# Altium footprint library Connectors.PcbLib: 81 footprints (part 5 of 6)
Each footprint in its own frame and in the unit in brackets; x right, y up, seen from the top. Pads: shape width x height; smd on the part's side, far side on the other; paste and mask are expansions set on the pad; w line width, h text height; cw(c..) or ccw(c..) is an arc to the next point about the centre after c.
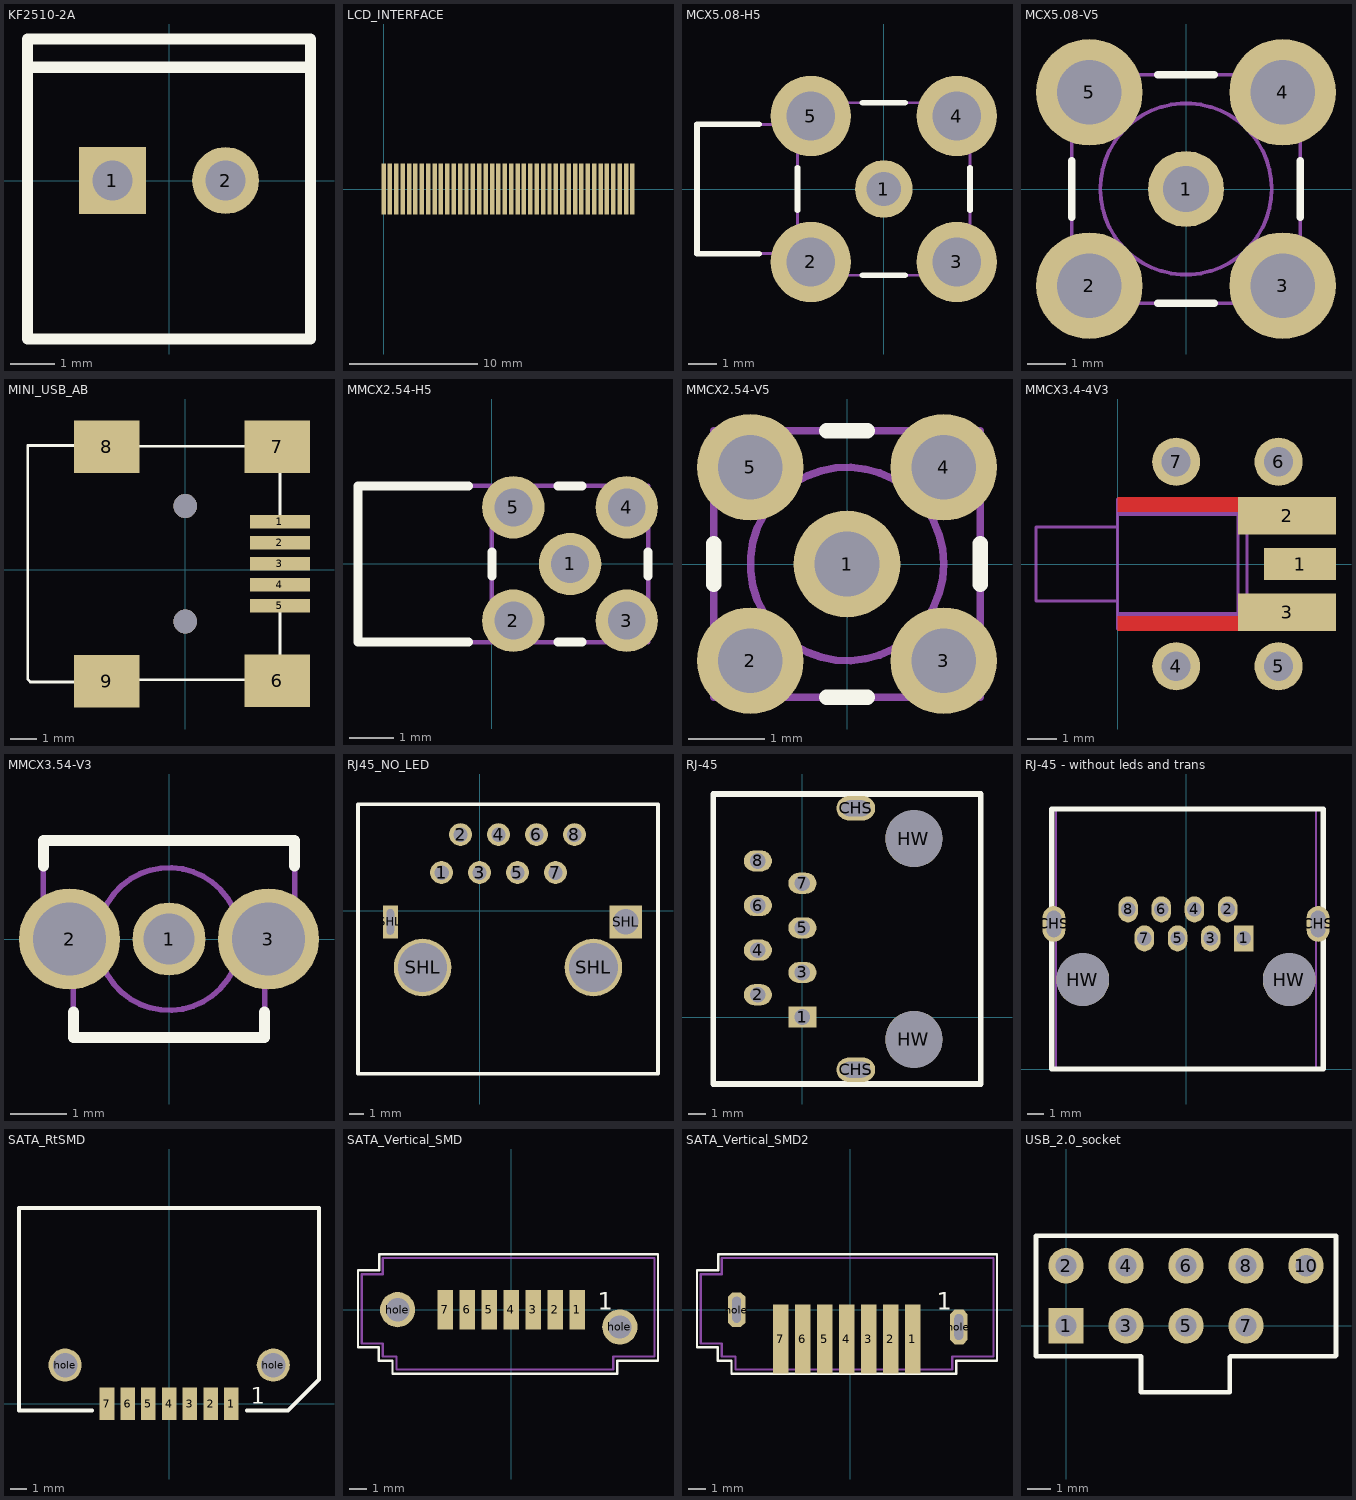
[diagram p4: the footprints below, top view; thin cyan lines are the x and y axes]

## KF2510-2A [mm] "250V/3A connector"
height 16
pads (2):
  rect 1.5x1.5 hole 0.9: 1(-1.27,0)
  round 1.5 hole 0.9: 2(1.27,0)
Top Overlay:
  lines w0.254: -3.175,2.54 -3.175,3.175 3.175,3.175 3.175,2.54 ; -3.175,2.54 -3.175,-3.556 3.175,-3.556 3.175,2.54 ; -3.175,2.54 3.175,2.54
3D body: height 16, standoff 0, extent -2.87,-3.3 2.87,2.5

## LCD_INTERFACE [mm]
pads (40):
  rect 0.35x4 smd: 1(0,0) 2(0.5,0) 3(1,0) 4(1.5,0) 5(2,0) 6(2.5,0) 7(3,0) 8(3.5,0) 9(4,0) 10(4.5,0) 11(5,0) 12(5.5,0) 13(6,0) 14(6.5,0) 15(7,0) 16(7.5,0) 17(8,0) 18(8.5,0) 19(9,0) 20(9.5,0) 21(10,0) 22(10.5,0) 23(11,0) 24(11.5,0) 25(12,0) 26(12.5,0) 27(13,0) 28(13.5,0) 29(14,0) 30(14.5,0) 31(15,0) 32(15.5,0) 33(16,0) 34(16.5,0) 35(17,0) 36(17.5,0) 37(18,0) 38(18.5,0) 39(19,0) 40(19.5,0)

## MCX5.08-H5 [mm] "Connector; RF Coaxial, MCX, Thru-Hole; 5 Position; Right Angle"
height 5.99
pads (5):
  round 2 hole 1.2: 1(0,0)
  round 2.8 hole 1.7: 2(-2.54,-2.54) 3(2.54,-2.54) 4(2.54,2.54) 5(-2.54,2.54)
Top Overlay:
  lines w0.2: -4.34,-2.25 -6.5,-2.25 -6.5,2.25 -4.34,2.25 ; -3,-0.74 -3,0.74 ; -0.74,-3 0.74,-3 ; -0.74,3 0.74,3 ; 3,-0.74 3,0.74
Mechanical 13:
  lines w0.1: -3,-2.25 -6.5,-2.25 -6.5,2.25 -3,2.25 ; -3,-3 3,-3 3,3 -3,3 -3,-3
3D body: height 5.25, standoff 0.76, extent -6.499,-2.249 -2.999,2.242
3D body: height 5.99, standoff 0, extent -2.999,-2.999 2.999,2.999

## MCX5.08-V5 [mm] "Connector; RF Coaxial, MCX, Thru-Hole; 5 Position; Vertical"
height 5.75
pads (5):
  round 2 hole 1.2: 1(0,0)
  round 2.8 hole 1.7: 2(-2.54,-2.54) 3(2.54,-2.54) 4(2.54,2.54) 5(-2.54,2.54)
Top Overlay:
  lines w0.2: -3,-0.74 -3,0.74 ; -0.74,-3 0.74,-3 ; -0.74,3 0.74,3 ; 3,-0.74 3,0.74
Mechanical 13:
  circle w0.1: c0,0 r2.25
  lines w0.1: -3,-3 3,-3 3,3 -3,3 -3,-3
3D body: height 5.75, standoff 1.6, extent -2.26,-2.26 2.26,2.26
3D body: height 1.6, standoff 0, extent -3,-3 3,3

## MINI_USB_AB [mm]
pads (9):
  rect 2.3x0.5 smd: 1(3.608,1.829) 2(3.608,1.029) 3(3.608,0.229) 4(3.608,-0.571) 5(3.608,-1.371)
  rect 2.5x2 smd: 6(3.508,-4.221) 7(3.508,4.679) 8(-2.992,4.679) 9(-2.992,-4.242)
via 0.008,2.429 diameter 0.9 hole 0.9
via 0.008,-1.971 diameter 0.9 hole 0.9
Top Overlay:
  lines w0.1: -3.492,4.729 -5.992,4.729 -5.992,-4.171 -5.892,-4.271 -3.392,-4.271 ; -2.413,4.699 2.667,4.699 ; -2.032,-4.191 2.667,-4.191 ; 3.608,-4.271 3.608,-1.571 ; 3.608,2.029 3.608,4.729

## MMCX2.54-H5 [mm] "Connector; RF Coaxial, MMCX, Thru-Hole; 5 Position; Right Angle"
height 3.8
pads (5):
  round 1.4 hole 0.85: 1(1.75,0) 2(0.48,-1.27) 3(3.02,-1.27) 4(3.02,1.27) 5(0.48,1.27)
Top Overlay:
  lines w0.2: -0.52,-1.75 -3,-1.75 -3,1.75 -0.52,1.75 ; 0,-0.27 0,0.27 ; 1.48,-1.75 2.02,-1.75 ; 1.48,1.75 2.02,1.75 ; 3.5,-0.27 3.5,0.27
Mechanical 13:
  lines w0.1: 0,-1.75 0,1.75 ; -3,-1.75 3.5,-1.75 3.5,1.75 -3,1.75 -3,-1.75
3D body: height 3.8, standoff 0, extent 0,-1.749 3.499,1.749
3D body: height 3.81, standoff 0.32, extent -3,-1.747 0,1.747

## MMCX2.54-V5 [mm] "Connector; RF Coaxial, MMCX, Thru-Hole; 5 Position; Vertical"
height 4.45
pads (5):
  round 1.4 hole 0.85: 1(0,0) 2(-1.27,-1.27) 3(1.27,-1.27) 4(1.27,1.27) 5(-1.27,1.27)
Top Overlay:
  lines w0.2: -1.75,-0.27 -1.75,0.27 ; -0.27,-1.75 0.27,-1.75 ; -0.27,1.75 0.27,1.75 ; 1.75,-0.27 1.75,0.27
Mechanical 13:
  circle w0.1: c0,0 r1.27
  lines w0.1: -1.75,-1.75 1.75,-1.75 1.75,1.75 -1.75,1.75 -1.75,-1.75
3D body: height 4.45, standoff 1.65, extent -1.28,-1.28 1.28,1.28
3D body: height 1.65, standoff 0, extent -1.75,-1.75 1.75,1.75

## MMCX3.4-4V3 [mm] "Connector; RF Coaxial, MMCX, Thru-Hole; 3 Position; Edgecard"
height 7.24
pads (7):
  rect 2.465x1.09 smd: 1(6.258,0)
  rect 3.355x1.295 smd: 2(5.813,1.653) 3(5.813,-1.653)
  round 1.65 hole 1: 4(2.01,-3.505) 5(5.52,-3.505) 6(5.52,3.505) 7(2.01,3.505)
Top Layer:
  rectangle: 0,1.78 7.49,2.3
  rectangle: 0,-2.3 7.49,-1.78
Mechanical 1:
  lines w0.1: 0,-1.78 4.135,-1.78 4.135,1.78 0,1.78 0,-1.78
  text "PCB Edge" at 0.115,-0.794 h0.1
  text "Assign" at 0.5,0.79 h0.5
  text "Keepout" at 0.5,0.136 h0.5
  text "Area to" at 0.5,-0.515 h0.5
  text "Cut-out" at 0.5,-1.209 h0.5
Mechanical 13:
  lines w0.1: 0,-1.7 4.445,-1.7 ; 0,-1.27 -2.794,-1.27 -2.794,1.27 0,1.27 ; 0,1.7 4.445,1.7 ; 0,-2.235 0,2.235 4.445,2.235 4.445,-2.235 0,-2.235
3D body: height 1, standoff -1, extent 0.001,-1.699 4.444,1.699
3D body: height 2.11, standoff 0, extent 0.001,-2.234 4.444,2.234
3D body: height 1.63, standoff -0.9, extent -2.793,-1.269 0.001,1.265

## MMCX3.54-V3 [mm] "Connector; RF Coaxial, MMCX, Thru-Hole; 3 Position; Vertical"
height 7.24
pads (3):
  round 1.3 hole 0.9: 1(0,0)
  round 1.8 hole 1.3: 2(-1.77,0) 3(1.77,0)
Top Overlay:
  lines w0.2: -2.235,1.3 -2.235,1.753 2.235,1.753 2.235,1.3 ; -1.702,-1.3 -1.702,-1.753 1.702,-1.753 1.702,-1.3
Mechanical 13:
  circle w0.1: c0,0 r1.27
  lines w0.1: -2.235,0 -2.235,1.753 2.235,1.753 2.235,0 1.702,0 1.702,-1.753 -1.702,-1.753 -1.702,0 -2.235,0
3D body: height 4.45, standoff 0, extent -2.234,-1.752 2.234,1.752
3D body: height 7.24, standoff 4.45, extent -1.28,-1.28 1.28,1.28

## RJ45_NO_LED [mil]
pads (12):
  round 60 hole 38: 1(-100,100) 2(-50,200) 3(0,100) 4(50,200) 5(100,100) 6(150,200) 7(200,100) 8(250,200)
  rect 39.37x86.61 hole 19.68 slot 66.93 at 90 deg: SHL(-235,-30)
  round 151.57 hole 130: SHL(-150,-150) SHL(300,-150)
  rect 86.61x86.61 hole 67 square: SHL(385,-30)
Top Overlay:
  lines w10: -320,-430 -296.25,-430 -208.75,-430 470,-430 470,-350 470,-23.75 470,58.75 470,131.56 470,217.19 470,280 -320,280 -320,-430

## RJ-45 [mm]
pads (12):
  rect 1.6x1.2 hole 0.89: 1(0,0)
  oval 1.6x1.2 hole 0.89: 2(-2.54,1.27) 3(0,2.54) 4(-2.54,3.81) 5(0,5.08) 6(-2.54,6.35) 7(0,7.62) 8(-2.54,8.89)
  oval 2.2x1.4 hole 0.89 slot 1.63 at 0 deg: CHS(3.048,-3) CHS(3.048,11.89)
  round 3.25 hole 3.25: HW(6.35,-1.27) HW(6.35,10.16)
Top Overlay:
  lines w0.33: -5.08,-3.81 10.16,-3.81 10.16,12.7 -5.08,12.7 -5.08,-3.81

## RJ-45 - without leds and trans [mm]
pads (12):
  rect 1.2x1.6 hole 0.89: 1(3.56,8.04)
  oval 1.2x1.6 hole 0.89: 2(2.56,9.82) 3(1.52,8.04) 4(0.52,9.82) 5(-0.52,8.04) 6(-1.52,9.82) 7(-2.56,8.04) 8(-3.56,9.82)
  oval 1.4x2.2 hole 0.89 slot 1.63 at 90 deg: CHS(-8.13,8.93) CHS(8.13,8.93)
  round 3.25 hole 3.25: HW(-6.35,5.5) HW(6.35,5.5)
Top Overlay:
  lines w0.33: -8.25,0 -8.25,16 8.45,16 8.45,0 -8.25,0
Mechanical 13:
  lines w0.1: -8,0 -8,16 8,16 8,0 -8,0
3D body: height 14, standoff 0, extent -8,0 8,16

## SATA_RtSMD [mil] "SATA 7 pin Right Angle Surface Mount Connector"
height 157.48
pads (9):
  rect 35x78 smd: 1(150,0) 2(100,0) 3(50,0) 4(0,0) 5(-50,0) 6(-100,0) 7(-150,0)
  round 80 hole 59: hole(-251,93) hole(251,93)
Top Overlay:
  lines w10: -186.02,-16.73 -362.2,-16.73 -362.2,471.46 361.22,471.46 361.22,58.07 286.42,-16.73 187.99,-16.73
  text "1" at 196.85,0 h40
3D body: height 157.48, standoff 0, extent -343.5,0 343.5,452.76

## SATA_Vertical_SMD [mm] "SATA 7 pin vertical Surface Mount Connector"
height 4
pads (9):
  rect 0.9x2.3 smd: 1(3.81,0) 2(2.54,0) 3(1.27,0) 4(0,0) 5(-1.27,0) 6(-2.54,0) 7(-3.81,0)
  round 2.032 hole 1.35: hole(-6.56,0) hole(6.27,-1)
Top Overlay:
  lines w0.127: -8.85,-2.175 -7.65,-2.175 -7.65,-2.95 -6.85,-2.95 -6.85,-3.7 6.125,-3.7 6.125,-2.95 8.475,-2.95 8.475,-2.225 8.475,3.2 -6.9,3.2 -7.625,3.2 -7.625,2.275 -8.85,2.275 -8.85,-2.175
  text "1" at 5,0 h1.02
Mechanical 13:
  lines w0.127: -8.63,-1.96 -8.63,2.04 -7.42,2.04 -7.42,2.99 8.27,2.99 8.27,-2.71 5.89,-2.71 5.89,-3.46 -6.63,-3.46 -6.63,-2.71 -7.42,-2.71 -7.42,-1.96 -8.63,-1.96
3D body: height 8.4, standoff 0, extent -8.63,-3.46 8.27,2.99

## SATA_Vertical_SMD2 [mm] "SATA 7 pin vertical Surface Mount Connector provided by HXP"
height 4
pads (9):
  rect 0.9x4 smd: 1(3.61,-1.7) 2(2.34,-1.7) 3(1.07,-1.7) 4(-0.2,-1.7) 5(-1.47,-1.7) 6(-2.74,-1.7) 7(-4.01,-1.7)
  oct 1x2 hole 0.5 slot 1.5 at 90 deg: hole(-6.56,0) hole(6.27,-1)
Top Overlay:
  lines w0.127: -8.85,-2.175 -8.85,2.275 -7.625,2.275 -7.625,3.2 -6.9,3.2 8.475,3.2 8.475,-2.225 8.475,-2.95 6.125,-2.95 6.125,-3.7 -6.85,-3.7 -6.85,-2.95 -7.65,-2.95 -7.65,-2.175 -8.85,-2.175
  text "1" at 5,0 h1.02
Mechanical 13:
  lines w0.127: -8.63,-1.96 -7.42,-1.96 -7.42,-2.71 -6.63,-2.71 -6.63,-3.46 5.89,-3.46 5.89,-2.71 8.27,-2.71 8.27,2.99 -7.42,2.99 -7.42,2.04 -8.63,2.04 -8.63,-1.96
3D body: height 8.4, standoff 0, extent -8.63,-3.46 8.27,2.99

## USB_2.0_socket [mm] "socket for 2 channel usb 2.0 from pannel"
pads (9):
  rect 1.5x1.5 hole 0.9: 1(0,0)
  round 1.5 hole 0.9: 2(0,2.54) 3(2.54,0) 4(2.54,2.54) 5(5.08,0) 6(5.08,2.54) 7(7.62,0) 8(7.62,2.54) 10(10.16,2.54)
Top Overlay:
  lines w0.2: -1.27,-1.295 3.175,-1.295 ; -1.27,-1.27 -1.27,3.81 11.43,3.81 11.43,-1.27 ; 3.175,-1.321 3.175,-2.819 6.934,-2.819 6.934,-1.321 ; 6.96,-1.295 11.405,-1.295